# EAGLE library part TOUCH_SENSORS (library PCBusinessCard)
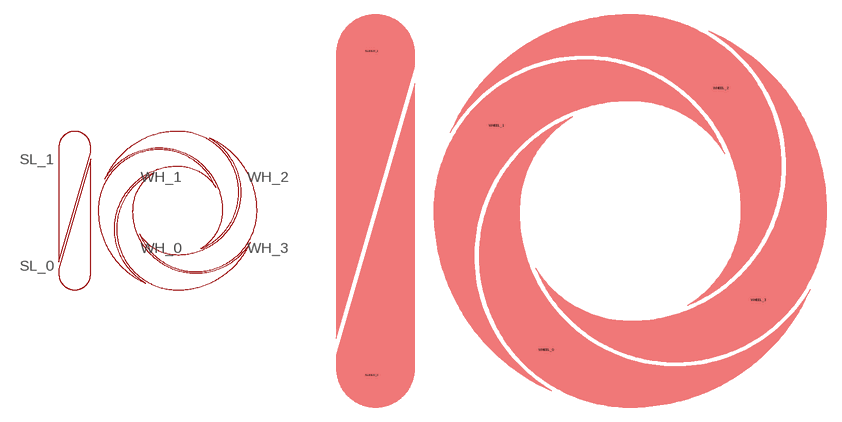
[diagram p4: symbol with the pads of TOUCH_SENSORS; footprint TOUCH_SENSORS]

Designator prefix -

## TOUCH_SENSORS  [TOUCH_SENSORS]
SLIDER_0  SL_0
SLIDER_1  SL_1
WHEEL_0  WH_0
WHEEL_1  WH_1
WHEEL_2  WH_2
WHEEL_3  WH_3

## Footprint TOUCH_SENSORS (pad centres in mm)
smd 1.27 x 0.635: SLIDER_0 -26.67,-16.51; SLIDER_1 -26.67,16.51; WHEEL_0 -8.89,-13.97; WHEEL_1 -13.97,8.89; WHEEL_2 8.89,12.7; WHEEL_3 12.7,-8.89